# Altium footprint library SnapEDApcb.PcbLib: 1 footprints
Each footprint in its own frame and in the unit in brackets; x right, y up, seen from the top. Pads: shape width x height; smd on the part's side, far side on the other; paste and mask are expansions set on the pad; w line width, h text height; cw(c..) or ccw(c..) is an arc to the next point about the centre after c.
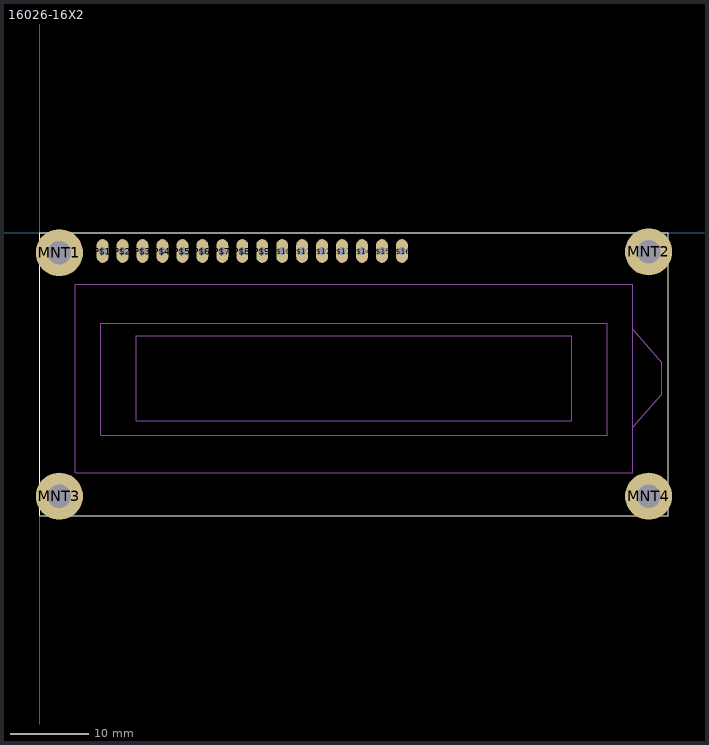
[diagram p0: the footprint, top view; thin cyan lines are the x and y axes]

## 16026-16X2 [mm]
pads (20):
  round 6 hole 3: MNT1(2.5,-2.5) MNT2(77.5,-2.4) MNT3(2.5,-33.5) MNT4(77.5,-33.5)
  oval 1.508x3.016 hole 1: P$1(8,-2.3) P$2(10.54,-2.3) P$3(13.08,-2.3) P$4(15.62,-2.3) P$5(18.16,-2.3) P$6(20.7,-2.3) P$7(23.24,-2.3) P$8(25.78,-2.3) P$9(28.32,-2.3) P$10(30.86,-2.3) P$11(33.4,-2.3) P$12(35.94,-2.3) P$13(38.48,-2.3) P$14(41.02,-2.3) P$15(43.56,-2.3) P$16(46.1,-2.3)
Top Overlay:
  lines w0.127: 0,-36 80,-36 80,0 0,0 0,-36
Mechanical 13:
  lines w0.127: 75.5,-24.75 79.15,-20.5 79.15,-16.5 75.5,-12.25 ; 75.5,-24.75 75.5,-12.25 ; 75.5,-24.75 75.5,-30.5 4.5,-30.5 4.5,-6.5 75.5,-6.5 75.5,-12.25 ; 7.75,-25.75 72.25,-25.75 72.25,-11.5 7.75,-11.5 7.75,-25.75 ; 12.275,-23.925 67.725,-23.925 67.725,-13.075 12.275,-13.075 12.275,-23.925
  text "CHARACTER AREA" at 67.51,-12.702 h0.81
  text "VISIBLE AREA" at 67.629,-11.156 h0.81
  text "BEZEL" at 67.582,-6.007 h0.81
  text "ERM1602-6_SERIES" at 40.406,-26.124 h3.81
  text "MACROFAB_DISPLAY" at 40.406,-18.503 h3.81
3D body "LCD20x4_HD44780-01_Blue.stp": height 11.24, standoff -2.41, extent 0.368,-60.96 98.438,-1.016